# Altium schematic symbol library SCH - POWER - LINEAR VREG - TI TPS78401-Q1DRB.SchLib: 1 symbol
Pins are listed as number, name and electrical type; pins without a type are passive.

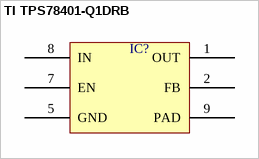
[diagram p0: symbol TI TPS78401-Q1DRB]

## TI TPS78401-Q1DRB
designator IC?  (value not drawn)
pins: 1 OUT, 2 FB, 5 GND, 7 EN, 8 IN, 9 PAD